# Altium schematic symbol library TypeC.SchLib: 1 symbol
Pins are listed as number, name and electrical type; pins without a type are passive.

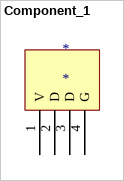
[diagram p0: symbol Component_1]

## Component_1
designator *
footprint Type C
pins: 1 V, 2 D, 3 D, 4 G